# EAGLE library part STM32F446RC/RE (library user_ic)
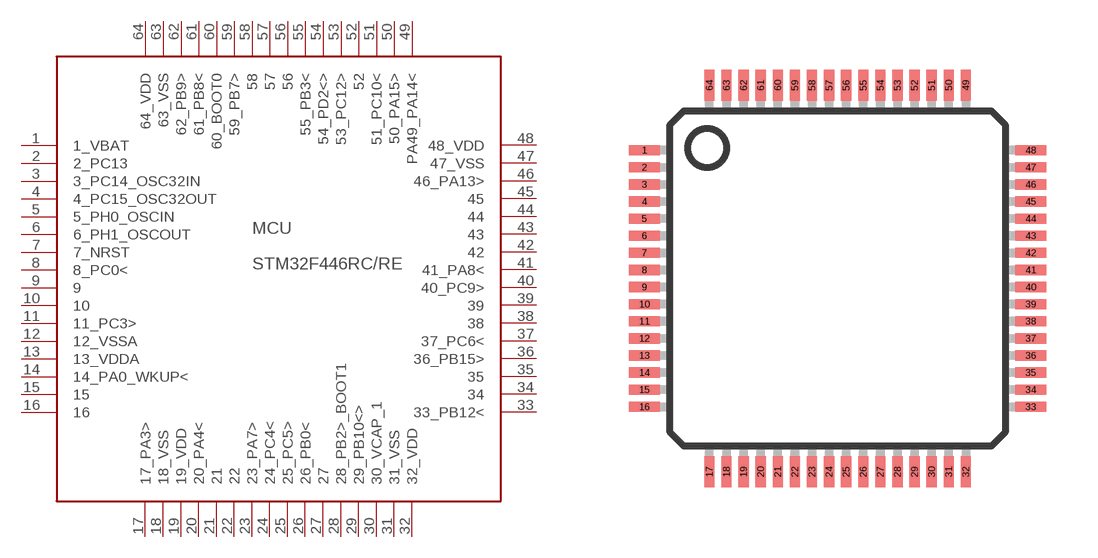
[diagram p26: symbol with the pads of LQFP64-2; footprint LQFP64-2]

Designator prefix MCU

## STM32F446RC/RE  [LQFP64-2]
1  1_VBAT
2  2_PC13
3  3_PC14_OSC32IN
4  4_PC15_OSC32OUT
5  5_PH0_OSCIN
6  6_PH1_OSCOUT
7  7_NRST
8  8_PC0<
9  9
10  10
11  11_PC3>
12  12_VSSA
13  13_VDDA
14  14_PA0_WKUP<
15  15
16  16
17  17_PA3>
18  18_VSS
19  19_VDD
20  20_PA4<
21  21
22  22
23  23_PA7>
24  24_PC4<
25  25_PC5>
26  26_PB0<
27  27
28  28_PB2>_BOOT1
29  29_PB10<>
30  30_VCAP_1
31  31_VSS
32  32_VDD
33  33_PB12<
34  34
35  35
36  36_PB15>
37  37_PC6<
38  38
39  39
40  40_PC9>
41  41_PA8<
42  42
43  43
44  44
45  45
46  46_PA13>
47  47_VSS
48  48_VDD
49  PA49_PA14<
50  50_PA15>
51  51_PC10<
52  52
53  53_PC12>
54  54_PD2<>
55  55_PB3<
56  56
57  57
58  58
59  59_PB7>
60  60_BOOT0
61  61_PB8<
62  62_PB9>
63  63_VSS
64  64_VDD

## Footprint LQFP64-2 (pad centres in mm)
64-Lead Low Profile Quad Flat Package [LQFP] (ST-64-2) COMPLIANT TO JEDEC STANDARDS MS-026-BCD Source: http://www.analog.com/UploadedFiles/Data_Sheets/288945048AD7C7019_20_1_2_4_5_6_7_0.pdf
smd 0.9 x 0.3: 1 -5.65,3.75; 2 -5.65,3.25; 3 -5.65,2.75; 4 -5.65,2.25; 5 -5.65,1.75; 6 -5.65,1.25; 7 -5.65,0.75; 8 -5.65,0.25; 9 -5.65,-0.25; 10 -5.65,-0.75; 11 -5.65,-1.25; 12 -5.65,-1.75; 13 -5.65,-2.25; 14 -5.65,-2.75; 15 -5.65,-3.25; 16 -5.65,-3.75; 33 5.65,-3.75; 34 5.65,-3.25; 35 5.65,-2.75; 36 5.65,-2.25; 37 5.65,-1.75; 38 5.65,-1.25; 39 5.65,-0.75; 40 5.65,-0.25; 41 5.65,0.25; 42 5.65,0.75; 43 5.65,1.25; 44 5.65,1.75; 45 5.65,2.25; 46 5.65,2.75; 47 5.65,3.25; 48 5.65,3.75
smd 0.3 x 0.9: 17 -3.75,-5.65; 18 -3.25,-5.65; 19 -2.75,-5.65; 20 -2.25,-5.65; 21 -1.75,-5.65; 22 -1.25,-5.65; 23 -0.75,-5.65; 24 -0.25,-5.65; 25 0.25,-5.65; 26 0.75,-5.65; 27 1.25,-5.65; 28 1.75,-5.65; 29 2.25,-5.65; 30 2.75,-5.65; 31 3.25,-5.65; 32 3.75,-5.65; 49 3.75,5.65; 50 3.25,5.65; 51 2.75,5.65; 52 2.25,5.65; 53 1.75,5.65; 54 1.25,5.65; 55 0.75,5.65; 56 0.25,5.65; 57 -0.25,5.65; 58 -0.75,5.65; 59 -1.25,5.65; 60 -1.75,5.65; 61 -2.25,5.65; 62 -2.75,5.65; 63 -3.25,5.65; 64 -3.75,5.65